# EAGLE library part RF200 (library 0_jc-custom-eagle6)
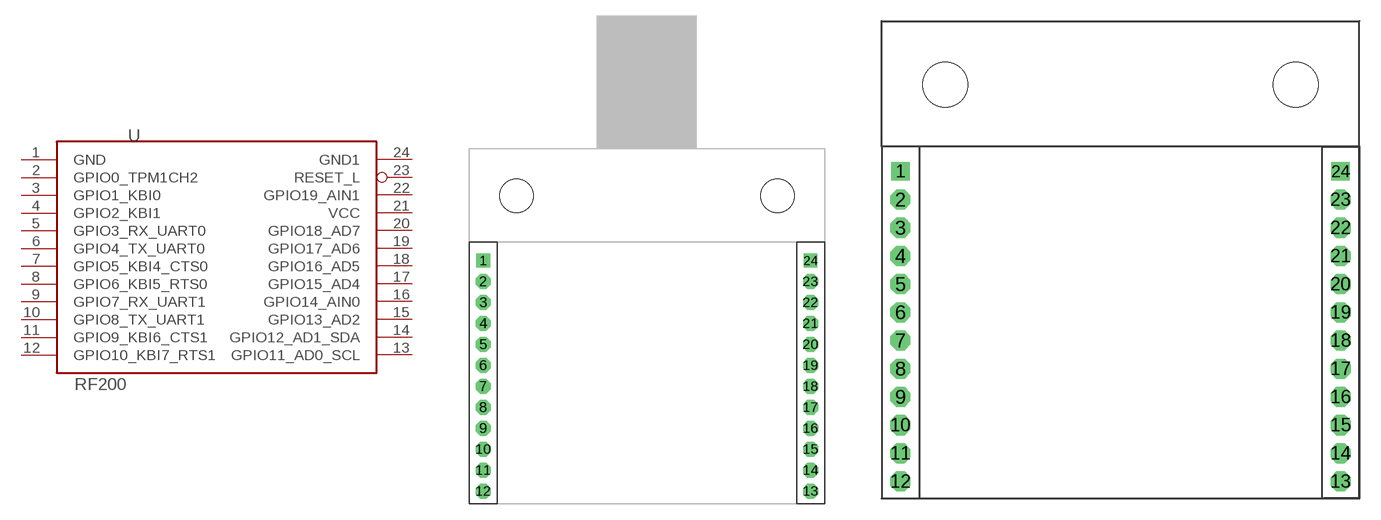
[diagram p6: symbol with the pads of SYNAPSERFENGINE-THM; footprints SYNAPSERFENGINE-THM, SYNAPSERFENGINE-THM-SILKTPLACE]

Designator prefix -

## RF200THM  [SYNAPSERFENGINE-THM]
1  GND
2  GPIO0_TPM1CH2
3  GPIO1_KBI0
4  GPIO2_KBI1
5  GPIO3_RX_UART0
6  GPIO4_TX_UART0
7  GPIO5_KBI4_CTS0
8  GPIO6_KBI5_RTS0
9  GPIO7_RX_UART1
10  GPIO8_TX_UART1
11  GPIO9_KBI6_CTS1
12  GPIO10_KBI7_RTS1
13  GPIO11_AD0_SCL
14  GPIO12_AD1_SDA
15  GPIO13_AD2
16  GPIO14_AIN0
17  GPIO15_AD4
18  GPIO16_AD5
19  GPIO17_AD6
20  GPIO18_AD7
21  VCC
22  GPIO19_AIN1
23  RESET_L
24  GND1

## RF200THM-SILK-TPLACE  [SYNAPSERFENGINE-THM-SILKTPLACE]
Pads as for SYNAPSERFENGINE-THM

## Footprint SYNAPSERFENGINE-THM (pad centres in mm)
Synapse Wireless RF Engine Through Hole Mount
drill 0.8 square: 1 0,0; 24 31.2,0
drill 0.8 pad 1.422 octagon: 2 0,-2; 3 0,-4; 4 0,-6; 5 0,-8; 6 0,-10; 7 0,-12; 8 0,-14; 9 0,-16; 10 0,-18; 11 0,-20; 12 0,-22; 13 31.2,-22; 14 31.2,-20; 15 31.2,-18; 16 31.2,-16; 17 31.2,-14; 18 31.2,-12; 19 31.2,-10; 20 31.2,-8; 21 31.2,-6; 22 31.2,-4; 23 31.2,-2
hole 3.2 at 3.17,6.16
hole 3.2 at 28.03,6.16

## Footprint SYNAPSERFENGINE-THM-SILKTPLACE (pad centres in mm)
drill 0.8 square: 1 0,0; 24 31.2,0
drill 0.8 pad 1.422 octagon: 2 0,-2; 3 0,-4; 4 0,-6; 5 0,-8; 6 0,-10; 7 0,-12; 8 0,-14; 9 0,-16; 10 0,-18; 11 0,-20; 12 0,-22; 13 31.2,-22; 14 31.2,-20; 15 31.2,-18; 16 31.2,-16; 17 31.2,-14; 18 31.2,-12; 19 31.2,-10; 20 31.2,-8; 21 31.2,-6; 22 31.2,-4; 23 31.2,-2
hole 3.2 at 3.17,6.16
hole 3.2 at 28.03,6.16